# Altium schematic symbol library 2WS2812B.SchLib: 1 symbol
Pins are listed as number, name and electrical type; pins without a type are passive.

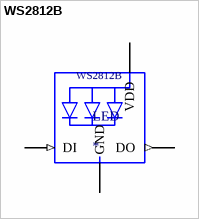
[diagram p0: symbol WS2812B]

## WS2812B
designator LED
Raspberry Pi HAT _40 pin_ Wheeled Robotics Kit; MP: WS2812B; MF: SparkFun Electronics; Availability: Unavailable; SnapEDA_Link: https://www.snapeda.com/parts/WS2812B/Worldsemi/view-part/1038297/?ref=snap; Price: None; Value: *; Package: None
footprint LED_WS2812B-B; pin to pad 1-VDD>1 2-DOUT>2 3-GND>3 4-DIN>4
pins: 1-VDD VDD (power), 2-DOUT DO (out), 3-GND GND (power), 4-DIN DI (in)